# EAGLE library part H2MM_2X7 (library Mechanical)
2mm 2x7 header (for use with Xilinx P-IV)
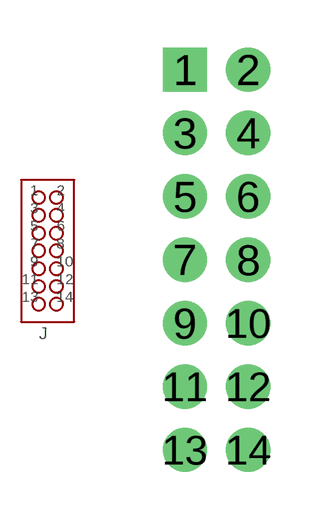
[diagram p52: symbol with the pads of H2MM_2X7; footprint H2MM_2X7]

Designator prefix J

## H2MM_2X7  [H2MM_2X7]
1  1
2  2
3  3
4  4
5  5
6  6
7  7
8  8
9  9
10  10
11  11
12  12
13  13
14  14

## Footprint H2MM_2X7 (pad centres in mm)
Xilinx P-IV 2mm header
drill 0.889 square: 1 -1,6
drill 0.889: 2 1,6; 3 -1,4; 4 1,4; 5 -1,2; 6 1,2; 7 -1,0; 8 1,0; 9 -1,-2; 10 1,-2; 11 -1,-4; 12 1,-4; 13 -1,-6; 14 1,-6